# Altium footprint library MOLEX SD-73251-212.PCBLIB: 1 footprints
Each footprint in its own frame and in the unit in brackets; x right, y up, seen from the top. Pads: shape width x height; smd on the part's side, far side on the other; paste and mask are expansions set on the pad; w line width, h text height; cw(c..) or ccw(c..) is an arc to the next point about the centre after c.
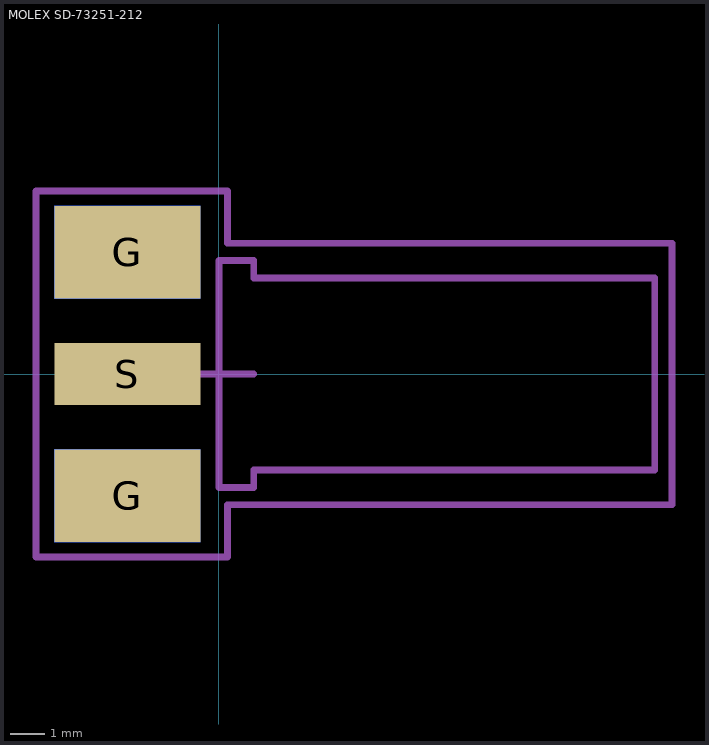
[diagram p0: the footprint, top view; thin cyan lines are the x and y axes]

## MOLEX SD-73251-212 [mm]
pads (5):
  rect 4.19x2.665 smd: G(-2.625,-3.492) G(-2.625,3.492)
  rect 4.19x2.665 smd far side: G(-2.625,-3.492) G(-2.625,3.492)
  rect 4.19x1.78 smd: S(-2.625,0)
Mechanical 1:
  lines w0.2: 0,-3.25 0,3.25 1,3.25 1,2.75 12.5,2.75 12.5,-2.75 1,-2.75 1,-3.25 0,-3.25
Mechanical 15:
  lines w0.2: -1,0 1,0 ; 0,-1 0,1 ; -5.25,-5.25 -5.25,5.25 0.25,5.25 0.25,3.75 13,3.75 13,-3.75 0.25,-3.75 0.25,-5.25 -5.25,-5.25
3D body "MOLEX SD-73251-212.stp": height 3.88, standoff -2.47, extent -3.81,-3.175 12.45,3.175